# Altium footprint library SAMTEC_TSW-104-08-T-S-RA.PcbLib: 1 footprints
Each footprint in its own frame and in the unit in brackets; x right, y up, seen from the top. Pads: shape width x height; smd on the part's side, far side on the other; paste and mask are expansions set on the pad; w line width, h text height; cw(c..) or ccw(c..) is an arc to the next point about the centre after c.
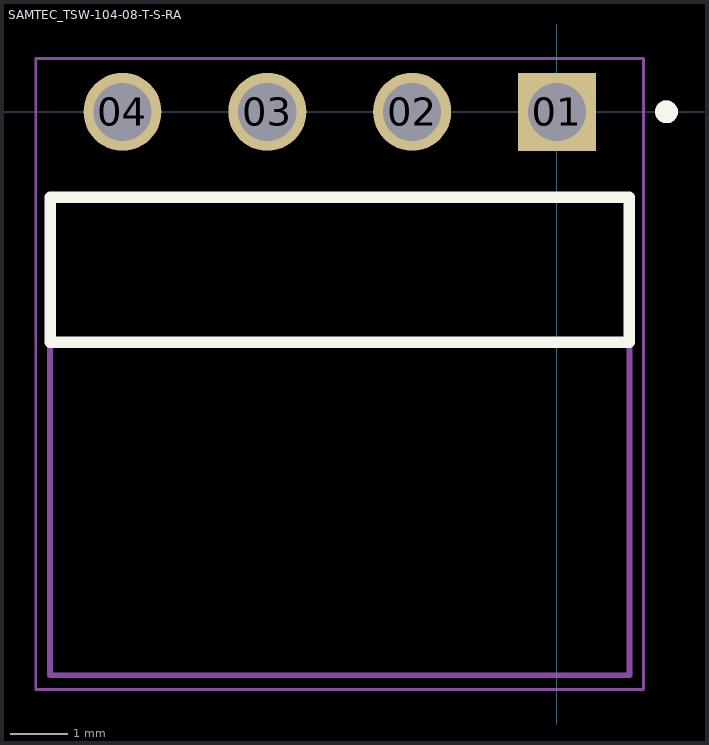
[diagram p0: the footprint, top view; thin cyan lines are the x and y axes]

## SAMTEC_TSW-104-08-T-S-RA [mm]
pads (4):
  rect 1.37x1.37 hole 1.02: 01(0,0)
  round 1.37 hole 1.02: 02(-2.54,0) 03(-5.08,0) 04(-7.62,0)
Top Overlay:
  circle w0.2: c1.92,0 r0.1
  lines w0.2: -8.89,-4.04 -8.89,-1.5 1.27,-1.5 1.27,-4.04 -8.89,-4.04
Mechanical 13:
  circle w0.2: c1.92,0 r0.1
  lines w0.1: -8.89,-4.04 -8.89,-1.5 1.27,-1.5 1.27,-4.04 ; -8.89,-4.04 1.27,-4.04 ; -8.89,-4.04 -8.89,-9.88 1.27,-9.88 1.27,-4.04
Mechanical 15:
  lines w0.05: -9.14,-10.13 -9.14,0.935 1.52,0.935 1.52,-10.13 -9.14,-10.13